# Altium schematic symbol library Schlib1.SchLib: 3 symbols
Pins are listed as number, name and electrical type; pins without a type are passive.

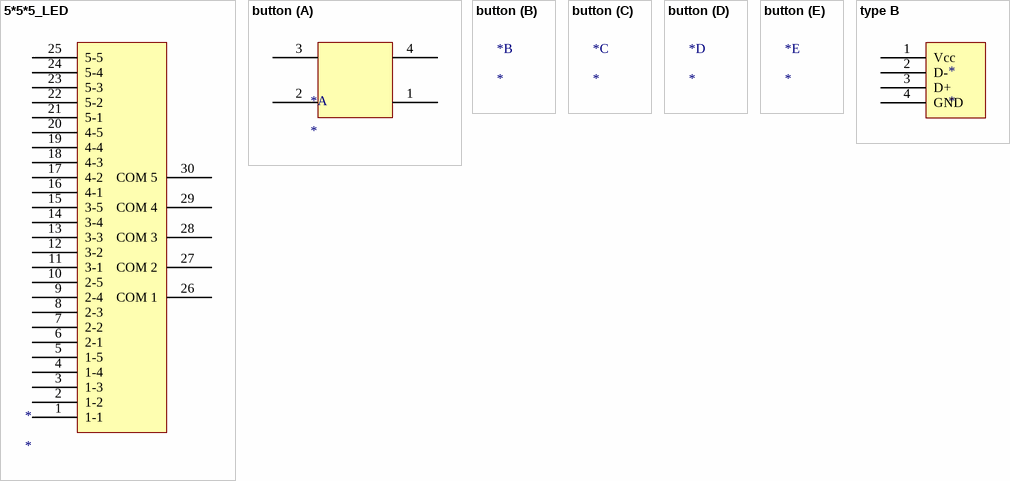
[diagram p0: symbols 5*5*5_LED to type B]

## 5*5*5_LED
designator *
footprint PCBComponent_1
pins: 1 1-1, 2 1-2, 3 1-3, 4 1-4, 5 1-5, 6 2-1, 7 2-2, 8 2-3, 9 2-4, 10 2-5, 11 3-1, 12 3-2, 13 3-3, 14 3-4, 15 3-5, 16 4-1, 17 4-2, 18 4-3, 19 4-4, 20 4-5, 21 5-1, 22 5-2, 23 5-3, 24 5-4, 25 5-5, 26 COM 1, 27 COM 2, 28 COM 3, 29 COM 4, 30 COM 5

## button
designator *
part A pins: 1, 2, 3, 4

## type B
designator *
pins: 1 Vcc, 2 D-, 3 D+, 4 GND